# Altium schematic symbol library SM04B-SRSS-TB_LF__SN.SCHLIB: 1 symbol
Pins are listed as number, name and electrical type; pins without a type are passive.

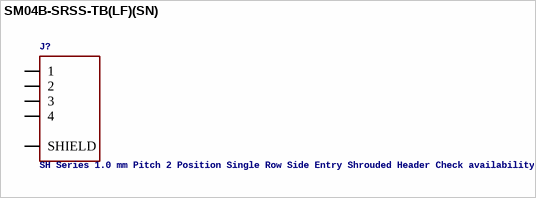
[diagram p0: symbol SM04B-SRSS-TB(LF)(SN)]

## SM04B-SRSS-TB(LF)(SN)
designator J?, comment SH Series 1.0 mm Pitch 2 Position Single Row Side Entry Shrouded Header Check availability
GateName_1: G$2; SymbolName_1: SM04B-SRSS-TB(LF)(SN); Description: Connector Header Surface Mount, Right Angle 4 position 0.039 (1.00mm); MF: JST Sales; LibraryName: SM04B-SRSS-TB_LF__SN; DeviceSetName: SM04B-SRSS-TB(LF)(SN); Package: None; MP: SM04B-SRSS-TB(LF)(SN); Purchase-URL: https://pricing.snapeda.com/search/part/SM04B-SRSS-TB(LF)(SN)/?ref=eda; Availability: In Stock; Price: None
footprint JST_SM04B-SRSS-TB(LF)(SN)
pins: 1, 2, 3, 4, S1 S2 SHIELD